# Altium integrated library Infineon.IntLib: 2 symbols
Pins are listed as number, name and electrical type; pins without a type are passive.

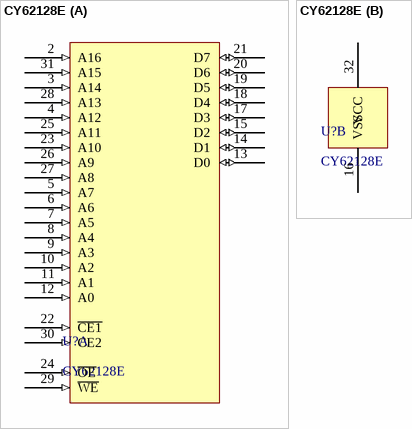
[diagram p0: symbol CY62128E]

## CY62128E
designator U?
128KB Static RAM
footprint CY62128E-SOIC
part A pins: 2 A16 (in), 3 A14 (in), 4 A12 (in), 5 A7 (in), 6 A6 (in), 7 A5 (in), 8 A4 (in), 9 A3 (in), 10 A2 (in), 11 A1 (in), 12 A0 (in), 13 D0 (io), 14 D1 (io), 15 D2 (io), 17 D3 (io), 18 D4 (io), 19 D5 (io), 20 D6 (io), 21 D7 (io), 22 ~{CE1} (in), 23 A10 (in), 24 ~{OE} (in), 25 A11 (in), 26 A9 (in), 27 A8 (in), 28 A13 (in), 29 ~{WE} (in), 30 CE2 (in), 31 A15 (in)
part B pins: 16 VSS (power), 32 VCC (power)


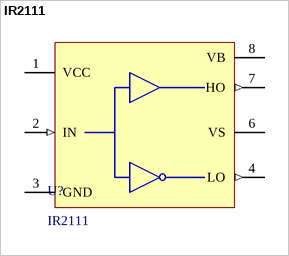
[diagram p1: symbol IR2111]

## IR2111
designator U?
IR2111 - HALF-BRIDGE DRIVER
footprint PDIP8
pins: 1 VCC (power), 2 IN (in), 3 GND (power), 4 LO (out), 6 VS (power), 7 HO (out), 8 VB (power)